# Altium schematic symbol library SCH - DRIVER - LED - TI TPS92391RHB.SchLib: 1 symbol
Pins are listed as number, name and electrical type; pins without a type are passive.

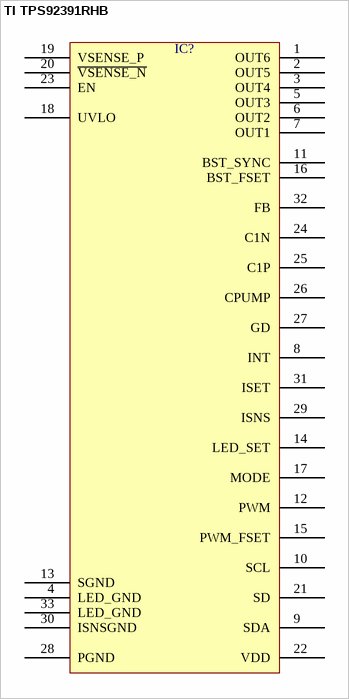
[diagram p0: symbol TI TPS92391RHB]

## TI TPS92391RHB
designator IC?  (value not drawn)
pins: 1 OUT6, 2 OUT5, 3 OUT4, 4 LED_GND, 5 OUT3, 6 OUT2, 7 OUT1, 8 INT, 9 SDA, 10 SCL, 11 BST_SYNC, 12 PWM, 13 SGND, 14 LED_SET, 15 PWM_FSET, 16 BST_FSET, 17 MODE, 18 UVLO, 19 VSENSE_P, 20 ~{VSENSE_N}, 21 SD, 22 VDD, 23 EN, 24 C1N, 25 C1P, 26 CPUMP, 27 GD, 28 PGND, 29 ISNS, 30 ISNSGND, 31 ISET, 32 FB, 33 LED_GND